# EAGLE library part AD8306 (library ruark2)
Limiting-Logarithmic Amplifier IC Receiver Signal Strength Indication (RSSI) 16-SO
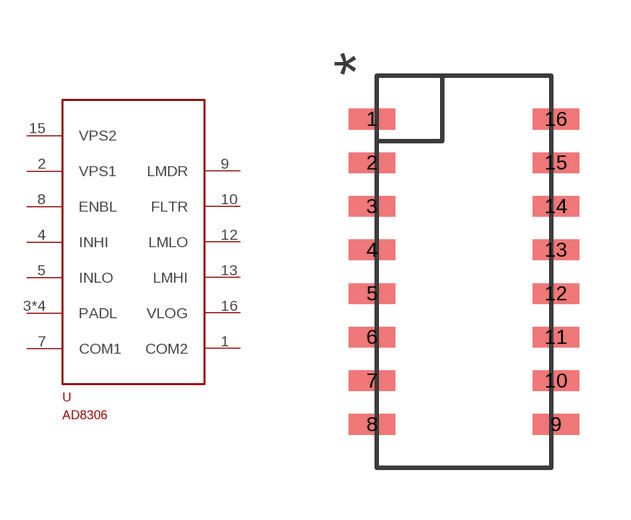
[diagram p25: symbol with the pads of SO16; footprint SO16]

Designator prefix U

## AD8306 (PARTNO: AD8306ARZ-ND)  [SO16]
1  COM2
2  VPS1
3  PADL
4  INHI
5  INLO
6  PADL
7  COM1
8  ENBL
9  LMDR
10  FLTR
11  PADL
12  LMLO
13  LMHI
14  PADL
15  VPS2
16  VLOG

## Footprint SO16 (pad centres in mm)
smd 1.35 x 0.6: 1 -2.215,5.62; 2 -2.215,4.35; 3 -2.215,3.08; 4 -2.215,1.81; 5 -2.215,0.54; 6 -2.215,-0.73; 7 -2.215,-2; 8 -2.215,-3.27; 9 3.135,-3.27; 10 3.135,-2; 11 3.135,-0.73; 12 3.135,0.54; 13 3.135,1.81; 14 3.135,3.08; 15 3.135,4.35; 16 3.135,5.62